# Altium footprint library mylib.PcbLib: 8 footprints
Each footprint in its own frame and in the unit in brackets; x right, y up, seen from the top. Pads: shape width x height; smd on the part's side, far side on the other; paste and mask are expansions set on the pad; w line width, h text height; cw(c..) or ccw(c..) is an arc to the next point about the centre after c.
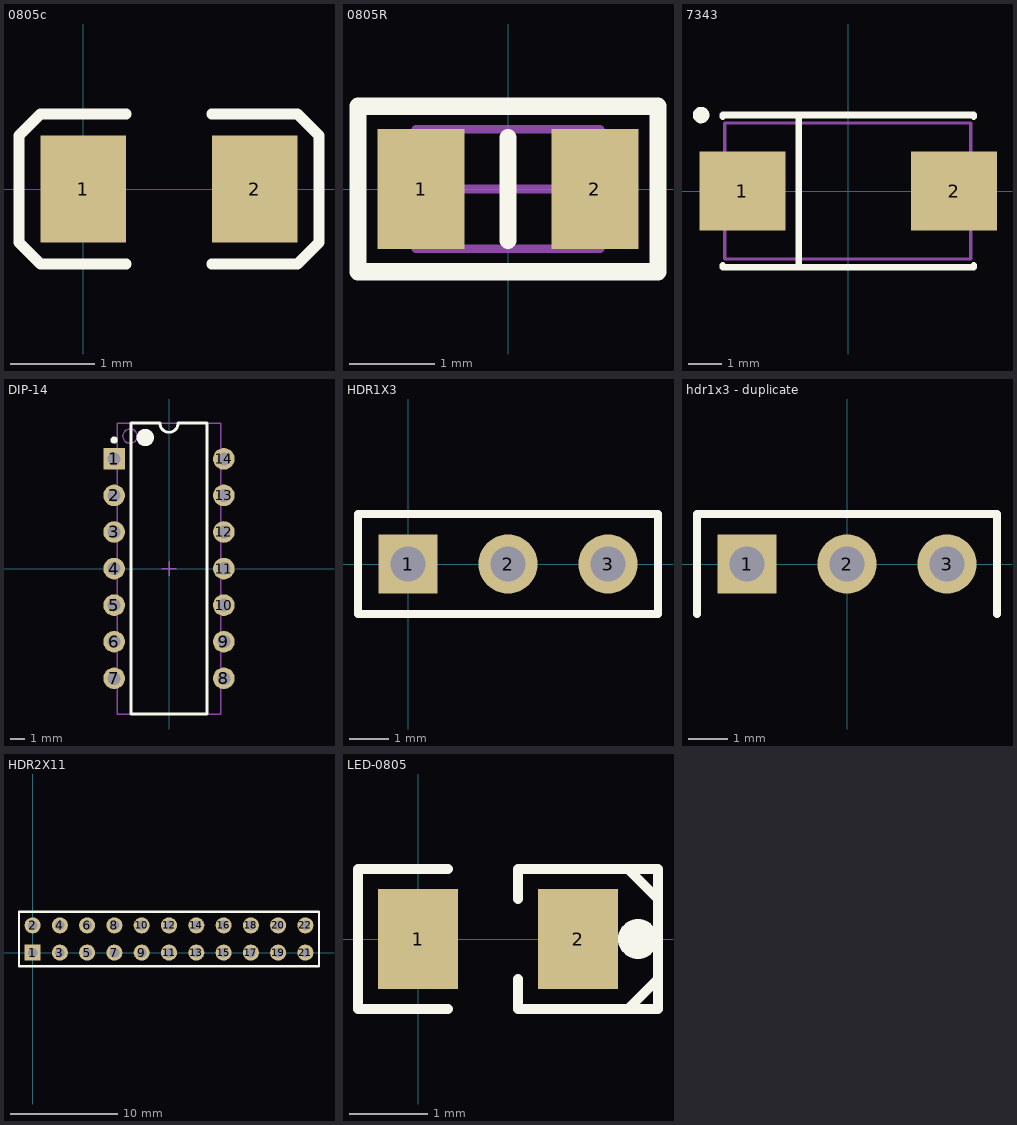
[diagram p0: the footprints below, top view; thin cyan lines are the x and y axes]

## 0805c [mil]
height 109.84
pads (2):
  rect 40x50 smd: 1(0,0) 2(80,0)
Top Overlay:
  lines w5: 20,-35 -20,-35 -30,-25 -30,25 -20,35 20,35 ; 60,-35 100,-35 110,-25 110,25 100,35 60,35
3D body: height 25.59, standoff 0, extent -7.32,-27.56 77.32,27.56

## 0805R [mil]
height 57.09
pads (2):
  rect 40x55 smd: 1(-40,0) 2(40,0)
Top Overlay:
  lines w8: 0,-23.62 0,23.62 ; -69,-38 -69,38 69,38 69,-38 -69,-38
Mechanical 13:
  lines w3.94: -42.32,-27.56 42.32,-27.56 42.32,27.56 -42.32,27.56 -42.32,-27.56
Mechanical 15:
  lines w3.94: -19.68,0 19.69,0 ; 0,-19.68 0,19.69 ; -68.9,-37.4 68.9,-37.4 68.9,37.4 -68.9,37.4 -68.9,-37.4
3D body: height 25.59, standoff 0, extent -42.32,-27.56 42.32,27.56

## 7343 [mm] "Capacitor, SM Tantalum; Body 7.3 x 4.3 mm (LxW typ)"
height 3.7
pads (2):
  rect 2.6x2.4 smd: 1(-3.2,0) 2(3.2,0)
Top Overlay:
  circle w0.25: c-4.45,2.3 r0.125
  lines w0.2: -3.8,-2.25 -3.8,-2.3 3.8,-2.3 3.8,-2.25 ; -3.8,2.25 -3.8,2.3 3.8,2.3 3.8,2.25 ; -1.5,-2.3 -1.5,2.3
Mechanical 13:
  lines w0.1: -3.734,-2.057 -3.734,2.057 3.708,2.057 3.708,-2.057 -3.734,-2.057
3D body: height 2.9, standoff 0, extent -3.734,-2.057 3.708,2.065

## DIP-14 [mm] "DIP; 14 Leads; Row Spacing 7.62 mm; Pitch 2.54 mm"
height 5.08
pads (14):
  rect 1.5x1.5 hole 0.9: 1(-3.81,7.62)
  round 1.5 hole 0.9: 2(-3.81,5.08) 3(-3.81,2.54) 4(-3.81,0) 5(-3.81,-2.54) 6(-3.81,-5.08) 7(-3.81,-7.62) 8(3.81,-7.62) 9(3.81,-5.08) 10(3.81,-2.54) 11(3.81,0) 12(3.81,2.54) 13(3.81,5.08) 14(3.81,7.62)
Top Overlay:
  circle w0.6: c-1.65,9.1 r0.3
  circle w0.25: c-3.81,8.92 r0.125
  lines w0.2: -2.65,-10.1 2.65,-10.1 2.65,10.1 0.635,10.1 cw(c0,10.1) -0.635,10.1 -2.65,10.1 -2.65,-10.1
Mechanical 13:
  circle w0.1: c-2.7,9.2 r0.5
  lines w0.1: -3.6,-10.1 3.6,-10.1 3.6,10.1 -3.6,10.1 -3.6,-10.1
Mechanical 15:
  lines w0.1: -0.5,0 0.5,0 ; 0,-0.5 0,0.5
3D body: height 5.08, standoff 0, extent -3.6,-10.1 3.6,10.1

## HDR1X3 [mm] "Connector; Header; 3 Position"
pads (3):
  rect 1.5x1.5 hole 0.9: 1(0,0)
  round 1.5 hole 0.9: 2(2.54,0) 3(5.08,0)
Top Overlay:
  lines w0.2: -1.27,-1.27 6.35,-1.27 6.35,1.27 -1.27,1.27 -1.27,-1.27

## hdr1x3 - duplicate [mm]
pads (3):
  rect 1.5x1.5 hole 0.9: 1(-2.54,0)
  round 1.5 hole 0.9: 2(0,0) 3(2.54,0)
Top Overlay:
  lines w0.2: -3.81,-1.27 -3.81,1.27 3.81,1.27 3.81,-1.27

## HDR2X11 [mm] "Connector; Header; 11x2 Position"
pads (22):
  rect 1.5x1.5 hole 0.9: 1(0,0)
  round 1.5 hole 0.9: 2(0,2.54) 3(2.54,0) 4(2.54,2.54) 5(5.08,0) 6(5.08,2.54) 7(7.62,0) 8(7.62,2.54) 9(10.16,0) 10(10.16,2.54) 11(12.7,0) 12(12.7,2.54) 13(15.24,0) 14(15.24,2.54) 15(17.78,0) 16(17.78,2.54) 17(20.32,0) 18(20.32,2.54) 19(22.86,0) 20(22.86,2.54) 21(25.4,0) 22(25.4,2.54)
Top Overlay:
  lines w0.2: -1.27,-1.27 26.67,-1.27 26.67,3.81 -1.27,3.81 -1.27,-1.27

## LED-0805 [mil]
height 109.84
pads (3):
  rect 40x50 smd: 1(0,0) 2(80,0)
  round 20 on Top Overlay: ""(110,0)
Top Overlay:
  lines w5: 15,-35 -30,-35 -30,35 15,35 ; 50,-20 50,-35 110,-35 120,-35 120,35 110,35 50,35 50,20 ; 105,-35 120,-20 ; 105,35 120,20